# Altium schematic symbol library ADCMP395.Schlib: 1 symbol
Pins are listed as number, name and electrical type; pins without a type are passive.

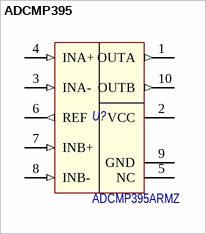
[diagram p0: symbol ADCMP395]

## ADCMP395
designator U?, comment ADCMP395ARMZ
Dual Comparators with Accurate Reference Output; Потребление, Вт: 0,001; Назначение: Dual Comparators with Accurate Reference Output; ComponentLink1Description: Datasheet; ComponentLink1URL: https://www.analog.com/en/products/adcmp395.html; Наименование: ADCMP395ARMZ
footprint MSOP-10 (10-Lead Mini Small Outline Package)
pins: 1 OUTA (out), 2 VCC (power), 3 INA- (in), 4 INA+ (in), 5 NC, 6 REF (out), 7 INB+ (in), 8 INB- (in), 9 GND (power), 10 OUTB (out)